# EAGLE library part CONN-STLINK-V2 (library stm32f1xx)
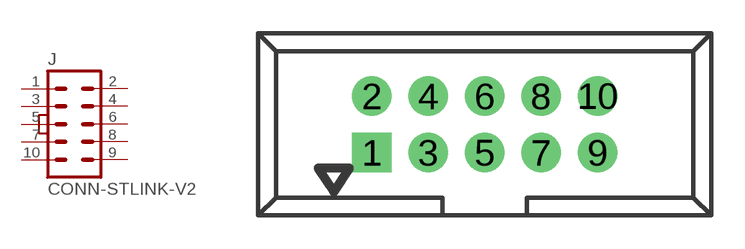
[diagram p1: symbol with the pads of CONN-STLINK-V2; footprint CONN-STLINK-V2]

Designator prefix J

## CONN-STLINK-V2  [CONN-STLINK-V2]
1  RST  pas
2  SWIO  pas
3  GND  pas
4  GND1  pas
5  SWIM  pas
6  SWCLK  pas
7  3V3  pas
8  3V3A  pas
9  5VA  pas
10  2  pas

## Footprint CONN-STLINK-V2 (pad centres in mm)
CONNECTOR series 057 contact pc board low profile headers straight
drill 1 pad 1.778 square: 1 -5.08,-1.27
drill 1 pad 1.778: 2 -5.08,1.27; 3 -2.54,-1.27; 4 -2.54,1.27; 5 0,-1.27; 6 0,1.27; 7 2.54,-1.27; 8 2.54,1.27; 9 5.08,-1.27; 10 5.08,1.27